# Altium footprint library Sensor.PcbLib: 15 footprints
Each footprint in its own frame and in the unit in brackets; x right, y up, seen from the top. Pads: shape width x height; smd on the part's side, far side on the other; paste and mask are expansions set on the pad; w line width, h text height; cw(c..) or ccw(c..) is an arc to the next point about the centre after c.
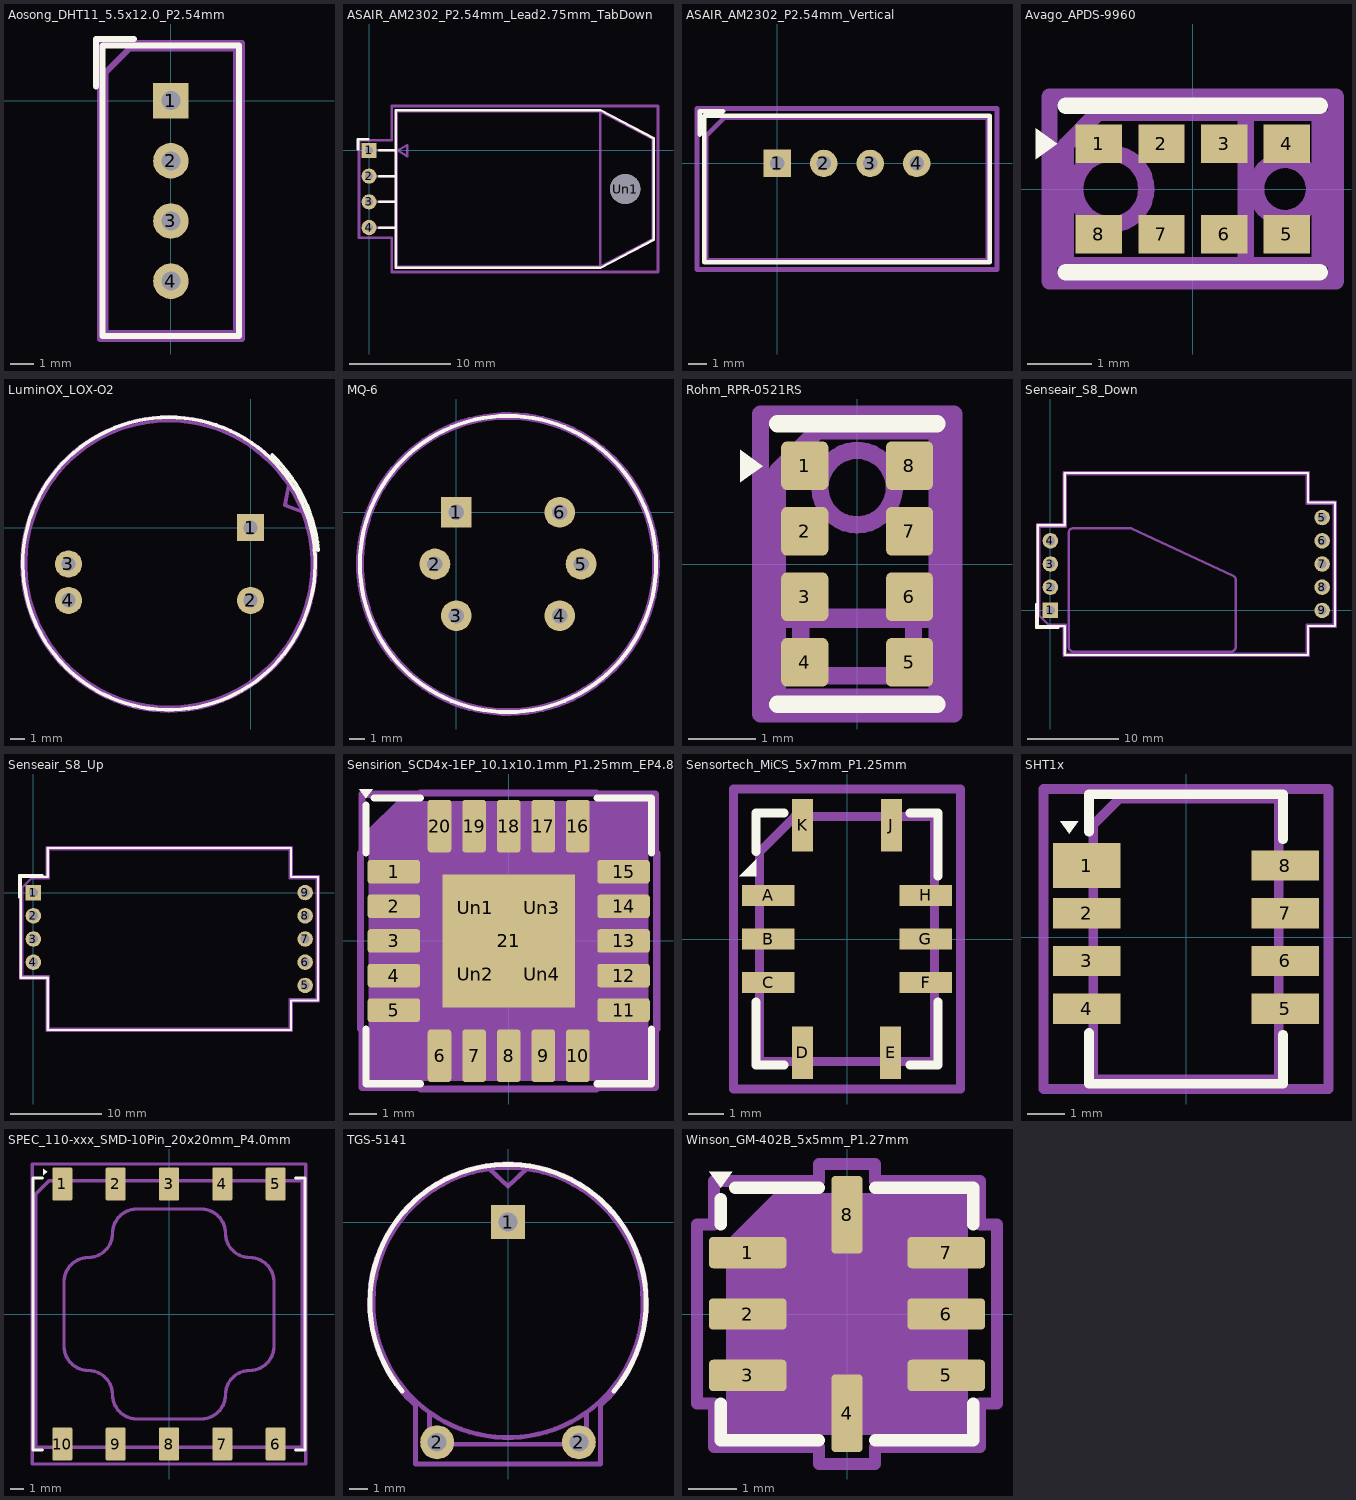
[diagram p0: the footprints below, top view; thin cyan lines are the x and y axes]

## Aosong_DHT11_5.5x12.0_P2.54mm [mm]
pads (4):
  rect 1.5x1.5 hole 0.8: 1(0,0)
  round 1.5 hole 0.8: 2(0,-2.54) 3(0,-5.08) 4(0,-7.62)
F.SilkS:
  lines w0.254: -3.16,0.6 -3.16,2.6 -1.55,2.6 ; -2.88,2.31 -2.88,-9.94 2.88,-9.94 2.88,2.32 ; -2.87,2.32 2.87,2.32
F.Fab:
  lines w0.254: -2.75,-9.81 2.75,-9.81 2.75,2.19 -1.75,2.19 -2.75,1.19 -2.75,-9.81
  text "'.Designator'" at -4.047,-4.65 h1
F.CrtYd:
  lines w0.254: -3,-10.06 3,-10.06 3,2.44 -3,2.44 -3,-10.06
3D body "Aosong_DHT11_5.5x12.0_P2.54mm.step": height 15.5, standoff -8, extent -2.75,-9.81 2.75,2.19

## ASAIR_AM2302_P2.54mm_Lead2.75mm_TabDown [mm]
pads (5):
  rect 1.5x1.5 hole 0.8: 1(0,0)
  round 1.5 hole 0.8: 2(0,-2.54) 3(0,-5.08) 4(0,-7.62)
  round 3 hole 3: Un1(25.3,-3.81)
F.SilkS:
  lines w0.254: -1.1,0.1 -1.1,1.1 -0.1,1.1 ; 1.01,-7.62 2.65,-7.62 ; 1.01,-5.08 2.65,-5.08 ; 1.01,-2.54 2.65,-2.54 ; 1.01,0 2.65,0 ; 2.65,-11.61 2.65,3.99 22.85,3.99 28.15,1.19 28.15,-8.81 22.85,-11.61 2.65,-11.61
F.Fab:
  lines w0.254: 0,-7.62 2.75,-7.62 ; 0,-5.08 2.75,-5.08 ; 0,-2.54 2.75,-2.54 ; 0,0 2.75,0 ; 22.85,-11.51 2.75,-11.51 2.75,3.89 22.85,3.89 ; 22.85,-11.51 22.85,3.89 ; 22.85,-11.51 28.05,-8.75 28.05,1.13 22.85,3.89 ; 2.835,-0.01 3.765,0.53 3.765,-0.58 2.835,-0.01
  text "'.Designator'" at 10.053,-4.94 h1
F.CrtYd:
  lines w0.254: -1,-8.62 -1,1 2.25,1 2.25,4.39 28.55,4.39 28.55,-12.01 2.25,-12.01 2.25,-8.62 -1,-8.62

## ASAIR_AM2302_P2.54mm_Vertical [mm]
pads (4):
  rect 1.5x1.5 hole 0.8: 1(0,0)
  round 1.5 hole 0.8: 2(2.54,0) 3(5.08,0) 4(7.62,0)
F.SilkS:
  lines w0.254: -4.24,1.58 -4.24,2.85 -2.97,2.85 ; -3.99,-5.4 -3.99,2.6 11.61,2.6 11.61,-5.4 -3.99,-5.4
F.Fab:
  lines w0.254: -3.89,-5.3 -3.89,1.5 -2.89,2.5 11.51,2.5 11.51,-5.3 -3.89,-5.3
  text "'.Designator'" at -0.247,-2.24 h1
F.CrtYd:
  lines w0.254: -4.39,-5.8 -4.39,3 12.01,3 12.01,-5.8 -4.39,-5.8

## Avago_APDS-9960 [mm]
pads (8):
  rect 0.72x0.6 smd: 1(-1.455,0.7) 2(-0.485,0.7) 3(0.485,0.7) 4(1.455,0.7) 5(1.455,-0.7) 6(0.485,-0.7) 7(-0.485,-0.7) 8(-1.455,-0.7)
F.SilkS:
  region: -2.1,0.7 -2.43,0.46 -2.43,0.94
  lines w0.254: -1.97,-1.29 1.97,-1.29 ; -1.97,1.29 1.97,1.29
F.Fab:
  lines w0.254: 0.82,-1.18 0.82,1.18 ; -1.97,-1.18 -1.97,0.68 -1.47,1.18 1.97,1.18 1.97,-1.18 -1.97,-1.18
  text "'.Designator'" at -2.448,-0.445 h0.5
F.CrtYd:
  lines w0.254: -2.22,-1.43 -2.22,1.43 2.22,1.43 2.22,-1.43 -2.22,-1.43
Cmts.User:
  circle w0.254: c-1.27,0 r0.55
  circle w0.254: c1.43,0 r0.45
  text "D" at -0.77,-0.117 h0.2
  text "R" at -1.12,0.233 h0.2
  text "L" at -1.12,-0.457 h0.2
  text "U" at -1.47,-0.117 h0.2
  text "LED" at 1.58,-0.263 h0.2

## LuminOX_LOX-O2 [mm]
pads (4):
  rect 1.9x1.9 hole 1: 1(0,0)
  round 1.9 hole 1: 2(0,-5.08) 3(-12.7,-2.54) 4(-12.7,-5.08)
F.SilkS:
  circle w0.254: c-5.69,-2.51 r10.2
  lines w0.254: 1.5,5.06 cw(c-5.69,-2.54) 4.727,-1.566
F.Fab:
  circle w0.254: c-5.7,-2.54 r10
  lines w0.254: 2.65,2.96 2.4,1.56 3.6,1.11
  text "'.Designator'" at -9.747,-3.38 h1
F.CrtYd:
  circle w0.254: c-5.7,-2.54 r10.25

## MQ-6 [mm]
pads (6):
  rect 2x2 hole 1: 1(0,0)
  round 2 hole 1: 2(-1.39,-3.36) 3(0,-6.72) 4(6.72,-6.72) 5(8.11,-3.36) 6(6.72,0)
F.SilkS:
  circle w0.254: c3.36,-3.36 r9.625
F.Fab:
  circle w0.254: c3.36,-3.36 r9.5
  text "'.Designator'" at -0.397,-4.52 h1
F.CrtYd:
  circle w0.254: c3.36,-3.36 r9.75

## Rohm_RPR-0521RS [mm]
pads (8):
  rrect25% 0.7x0.72 smd: 1(-0.775,1.455) 2(-0.775,0.485) 3(-0.775,-0.485) 4(-0.775,-1.455) 5(0.775,-1.455) 6(0.775,-0.485) 7(0.775,0.485) 8(0.775,1.455)
F.SilkS:
  region: -1.4,1.45 -1.73,1.21 -1.73,1.69
  lines w0.254: -1.18,-2.075 1.18,-2.075 ; -1.18,2.075 1.18,2.075
F.Fab:
  lines w0.254: -1.18,-0.82 1.18,-0.82 ; -1.18,-1.97 -1.18,1.38 -0.59,1.97 1.18,1.97 1.18,-1.97 -1.18,-1.97
  text "'.Designator'" at 0.445,-1.473 h0.5
F.CrtYd:
  lines w0.254: -1.43,-2.22 -1.43,2.22 1.43,2.22 1.43,-2.22 -1.43,-2.22
Cmts.User:
  circle w0.254: c0,1.13 r0.55
  lines w0.254: -0.835,-1.655 0.835,-1.655 0.835,-0.785 -0.835,-0.785 -0.835,-1.655
  text "DET" at -0.284,0.98 h0.2
  text "EMITTER" at -0.557,-1.4 h0.2

## Senseair_S8_Down [mm]
pads (9):
  rect 1.7x1.7 hole 1: 1(0,0)
  round 1.7 hole 1: 2(0,2.54) 3(0,5.08) 4(0,7.62) 5(29.7,10.16) 6(29.7,7.62) 7(29.7,5.08) 8(29.7,2.54) 9(29.7,0)
F.SilkS:
  lines w0.254: -1.58,0.68 -1.58,-1.89 0.85,-1.89 ; -1.38,-1.69 -1.38,9.31 1.55,9.31 1.55,15.03 28.15,15.03 28.15,11.81 31.12,11.81 31.12,-1.69 28.15,-1.69 28.15,-4.87 1.55,-4.87 1.55,-1.69 -1.38,-1.69
F.Fab:
  lines w0.254: -1.23,-0.54 -1.23,9.16 1.7,9.16 1.7,14.88 28,14.88 28,11.66 30.97,11.66 30.97,-1.54 28,-1.54 28,-4.72 1.7,-4.72 1.7,-1.54 -0.23,-1.54 -1.23,-0.54
  text "'.Designator'" at 10.753,3.36 h1
F.CrtYd:
  lines w0.254: -1.48,-1.79 -1.48,9.41 1.45,9.41 1.45,15.13 28.25,15.13 28.25,11.91 31.22,11.91 31.22,-1.79 28.25,-1.79 28.25,-4.97 1.45,-4.97 1.45,-1.79 -1.48,-1.79
Dwgs.User:
  lines w0.254: 2,-4 2,8.5 cw(c2.5,8.5) 2.5,9 8.7,9 cw(c8.7,8.55) 8.925,8.94 19.961,3.803 cw(c19.75,3.35) 20.25,3.35 20.25,-4 cw(c19.75,-4) 19.75,-4.5 2.5,-4.5 cw(c2.5,-4) 2,-4

## Senseair_S8_Up [mm]
pads (9):
  rect 1.7x1.7 hole 1: 1(0,0)
  round 1.7 hole 1: 2(0,-2.54) 3(0,-5.08) 4(0,-7.62) 5(29.7,-10.16) 6(29.7,-7.62) 7(29.7,-5.08) 8(29.7,-2.54) 9(29.7,0)
F.SilkS:
  lines w0.254: -1.58,-0.54 -1.58,1.89 0.99,1.89 ; -1.38,-9.31 -1.38,1.69 1.55,1.69 1.55,4.87 28.15,4.87 28.15,1.69 31.12,1.69 31.12,-11.81 28.15,-11.81 28.15,-15.03 1.55,-15.03 1.55,-9.31 -1.38,-9.31
F.Fab:
  lines w0.254: -1.23,-9.16 -1.23,0.54 -0.23,1.54 1.7,1.54 1.7,4.72 28,4.72 28,1.54 30.97,1.54 30.97,-11.66 28,-11.66 28,-14.88 1.7,-14.88 1.7,-9.16 -1.23,-9.16
  text "'.Designator'" at 10.693,-5.91 h1
F.CrtYd:
  lines w0.254: -1.48,-9.41 -1.48,1.79 1.45,1.79 1.45,4.97 28.25,4.97 28.25,1.79 31.22,1.79 31.22,-11.91 28.25,-11.91 28.25,-15.13 1.45,-15.13 1.45,-9.41 -1.48,-9.41

## Sensirion_SCD4x-1EP_10.1x10.1mm_P1.25mm_EP4.8x4.8mm [mm]
pads (25):
  rrect25% 1.9x0.85 smd: 1(-4.15,2.5) 2(-4.15,1.25) 3(-4.15,0) 4(-4.15,-1.25) 5(-4.15,-2.5) 11(4.15,-2.5) 12(4.15,-1.25) 13(4.15,0) 14(4.15,1.25) 15(4.15,2.5)
  rrect25% 0.85x1.9 smd: 6(-2.5,-4.15) 7(-1.25,-4.15) 8(0,-4.15) 9(1.25,-4.15) 10(2.5,-4.15) 16(2.5,4.15) 17(1.25,4.15) 18(0,4.15) 19(-1.25,4.15) 20(-2.5,4.15)
  rect 4.8x4.8 smd: 21(0,0)
  rrect13% 1.93x1.93 on Top Paste: Un1(-1.2,1.2) Un2(-1.2,-1.2) Un3(1.2,1.2) Un4(1.2,-1.2)
F.SilkS:
  region: -5.16,5.16 -5.4,5.49 -4.92,5.49
  lines w0.254: -5.16,-3.185 -5.16,-5.16 -3.185,-5.16 ; -5.16,3.185 -5.16,4.92 ; -4.86,5.16 -3.185,5.16 ; 3.185,-5.16 5.16,-5.16 5.16,-3.185 ; 3.185,5.16 5.16,5.16 5.16,3.185
F.Fab:
  region: 5.05,-5.05 -5.05,-5.05 -5.05,4.05 -4.05,5.05 5.05,5.05
  text "'.Designator'" at -4.047,-0.84 h1
F.CrtYd:
  lines w0.254: -5.35,-3.18 -5.35,3.18 -5.3,3.18 -5.3,5.3 -3.18,5.3 -3.18,5.35 3.18,5.35 3.18,5.3 5.3,5.3 5.3,3.18 5.35,3.18 5.35,-3.18 5.3,-3.18 5.3,-5.3 3.18,-5.3 3.18,-5.35 -3.18,-5.35 -3.18,-5.3 -5.3,-5.3 -5.3,-3.18 -5.35,-3.18

## Sensortech_MiCS_5x7mm_P1.25mm [mm]
pads (10):
  rect 1.5x0.6 smd: A(-2.25,1.25) B(-2.25,0) C(-2.25,-1.25) F(2.25,-1.25) G(2.25,0) H(2.25,1.25)
  rect 0.6x1.5 smd: D(-1.27,-3.25) E(1.25,-3.25) J(1.27,3.25) K(-1.27,3.25)
F.SilkS:
  region: -2.6,1.8 -3.08,1.8 -2.6,2.28
  lines w0.254: -2.6,-1.8 -2.6,-3.6 -1.8,-3.6 ; -2.6,2.5 -2.6,3.6 -1.8,3.6 ; 1.8,-3.6 2.6,-3.6 2.6,-1.8 ; 1.8,3.6 2.6,3.6 2.6,1.8
F.Fab:
  lines w0.254: -2.5,-3.5 -2.5,2.5 -1.5,3.5 2.5,3.5 2.5,-3.5 -2.5,-3.5
  text "'.Designator'" at -4.047,-0.84 h1
F.CrtYd:
  lines w0.254: -3.25,-4.29 -3.25,4.29 3.25,4.29 3.25,-4.29 -3.25,-4.29

## SHT1x [mm]
pads (8):
  rect 1.8x1.2 smd: 1(-2.64,1.905)
  rect 1.8x0.8 smd: 2(-2.64,0.635) 3(-2.64,-0.635) 4(-2.64,-1.905) 5(2.64,-1.905) 6(2.64,-0.635) 7(2.64,0.635) 8(2.64,1.905)
F.SilkS:
  region: -3.1,2.75 -3.34,3.08 -2.86,3.08
  lines w0.254: -2.58,-2.55 -2.58,-3.895 2.58,-3.895 2.58,-2.6 ; -2.58,2.8 -2.58,3.795 2.58,3.795 2.58,2.6
F.Fab:
  lines w0.254: -2.47,-3.785 -2.47,2.985 -1.77,3.685 2.47,3.685 2.47,-3.785 -2.47,-3.785
  text "'.Designator'" at -4.047,-0.84 h1
F.CrtYd:
  lines w0.254: -3.79,-4.04 -3.79,3.94 3.79,3.94 3.79,-4.04 -3.79,-4.04
Cmts.User:
  text "Keepout;" at -0.087,-1.452 h0.5
  text "No copper" at 0.913,-1.812 h0.5

## SPEC_110-xxx_SMD-10Pin_20x20mm_P4.0mm [mm]
pads (10):
  rrect17% 1.5x2.5 smd: 1(-8,9.75) 2(-4,9.75) 3(0,9.75) 4(4,9.75) 5(8,9.75) 6(8,-9.75) 7(4,-9.75) 8(0,-9.75) 9(-4,-9.75) 10(-8,-9.75)
F.SilkS:
  region: -9.12,10.66 -9.45,10.42 -9.45,10.9
  lines w0.254: -9.5,-10.2 -10.2,-10.2 -10.2,10.2 -9.5,10.2 ; 9.5,-10.2 10.2,-10.2 10.2,10.2 9.5,10.2
F.Fab:
  lines w0.254: -10,-10 -10,9 -9,10 10,10 10,-10 -10,-10
  text "'.Designator'" at -4.047,-0.84 h1
F.CrtYd:
  lines w0.254: -10.25,-11.25 -10.25,11.25 10.25,11.25 10.25,-11.25 -10.25,-11.25
Edge.Cuts:
  lines w0.254: -7.875,-2.415 -7.875,2.415 cw(c-6.055,2.415) -6.055,4.235 ccw(c-6.055,6.055) -4.235,6.055 cw(c-2.415,6.055) -2.415,7.875 2.415,7.875 cw(c2.415,6.055) 4.235,6.055 ccw(c6.055,6.055) 6.055,4.235 cw(c6.055,2.415) 7.875,2.415 7.875,-2.415 cw(c6.055,-2.415) 6.055,-4.235 ccw(c6.055,-6.055) 4.235,-6.055 cw(c2.415,-6.055) 2.415,-7.875 -2.415,-7.875 cw(c-2.415,-6.055) -4.235,-6.055 ccw(c-6.055,-6.055) -6.055,-4.235 cw(c-6.055,-2.415) -7.875,-2.415

## TGS-5141 [mm]
pads (3):
  rect 1.8x1.8 hole 1: 1(0,0)
  round 1.8 hole 1: 2(-3.75,-11.65) 2(3.75,-11.65)
F.SilkS:
  lines w0.254: -5.6,-8.95 cw(c0,-4.25) 5.6,-8.95
F.Fab:
  circle w0.254: c0,-4.25 r7.15
  lines w0.254: -4.15,-10.08 -4.15,-11.75 4.15,-11.75 4.15,-10.08 ; -1,2.83 0,1.9 1,2.83
  text "'.Designator'" at -4.047,-5.09 h1
F.CrtYd:
  lines w0.254: -4.9,-12.8 -4.9,-9.7 cw(c0,-4.25) 4.9,-9.7 4.9,-12.8 -4.9,-12.8

## Winson_GM-402B_5x5mm_P1.27mm [mm]
pads (8):
  rrect25% 1.6x0.65 smd: 1(-2.05,1.27) 2(-2.05,0) 3(-2.05,-1.27) 5(2.05,-1.27) 6(2.05,0) 7(2.05,1.27)
  rrect25% 0.65x1.6 smd: 4(0,-2.05) 8(0,2.05)
F.SilkS:
  region: -2.61,2.61 -2.85,2.94 -2.37,2.94
  lines w0.254: -2.61,-1.855 -2.61,-2.61 -0.585,-2.61 ; -2.61,1.855 -2.61,2.37 ; -2.31,2.61 -0.585,2.61 ; 0.585,-2.61 2.61,-2.61 2.61,-1.855 ; 0.585,2.61 2.61,2.61 2.61,1.855
F.Fab:
  region: 2.5,-2.5 -2.5,-2.5 -2.5,1.5 -1.5,2.5 2.5,2.5
  text "'.Designator'" at -4.047,-0.84 h1
F.CrtYd:
  lines w0.254: -3.1,-1.85 -3.1,1.85 -2.75,1.85 -2.75,2.75 -0.58,2.75 -0.58,3.1 0.58,3.1 0.58,2.75 2.75,2.75 2.75,1.85 3.1,1.85 3.1,-1.85 2.75,-1.85 2.75,-2.75 0.58,-2.75 0.58,-3.1 -0.58,-3.1 -0.58,-2.75 -2.75,-2.75 -2.75,-1.85 -3.1,-1.85